# Altium footprint library Capacitors.PcbLib: 33 footprints (part 2 of 3)
Each footprint in its own frame and in the unit in brackets; x right, y up, seen from the top. Pads: shape width x height; smd on the part's side, far side on the other; paste and mask are expansions set on the pad; w line width, h text height; cw(c..) or ccw(c..) is an arc to the next point about the centre after c.
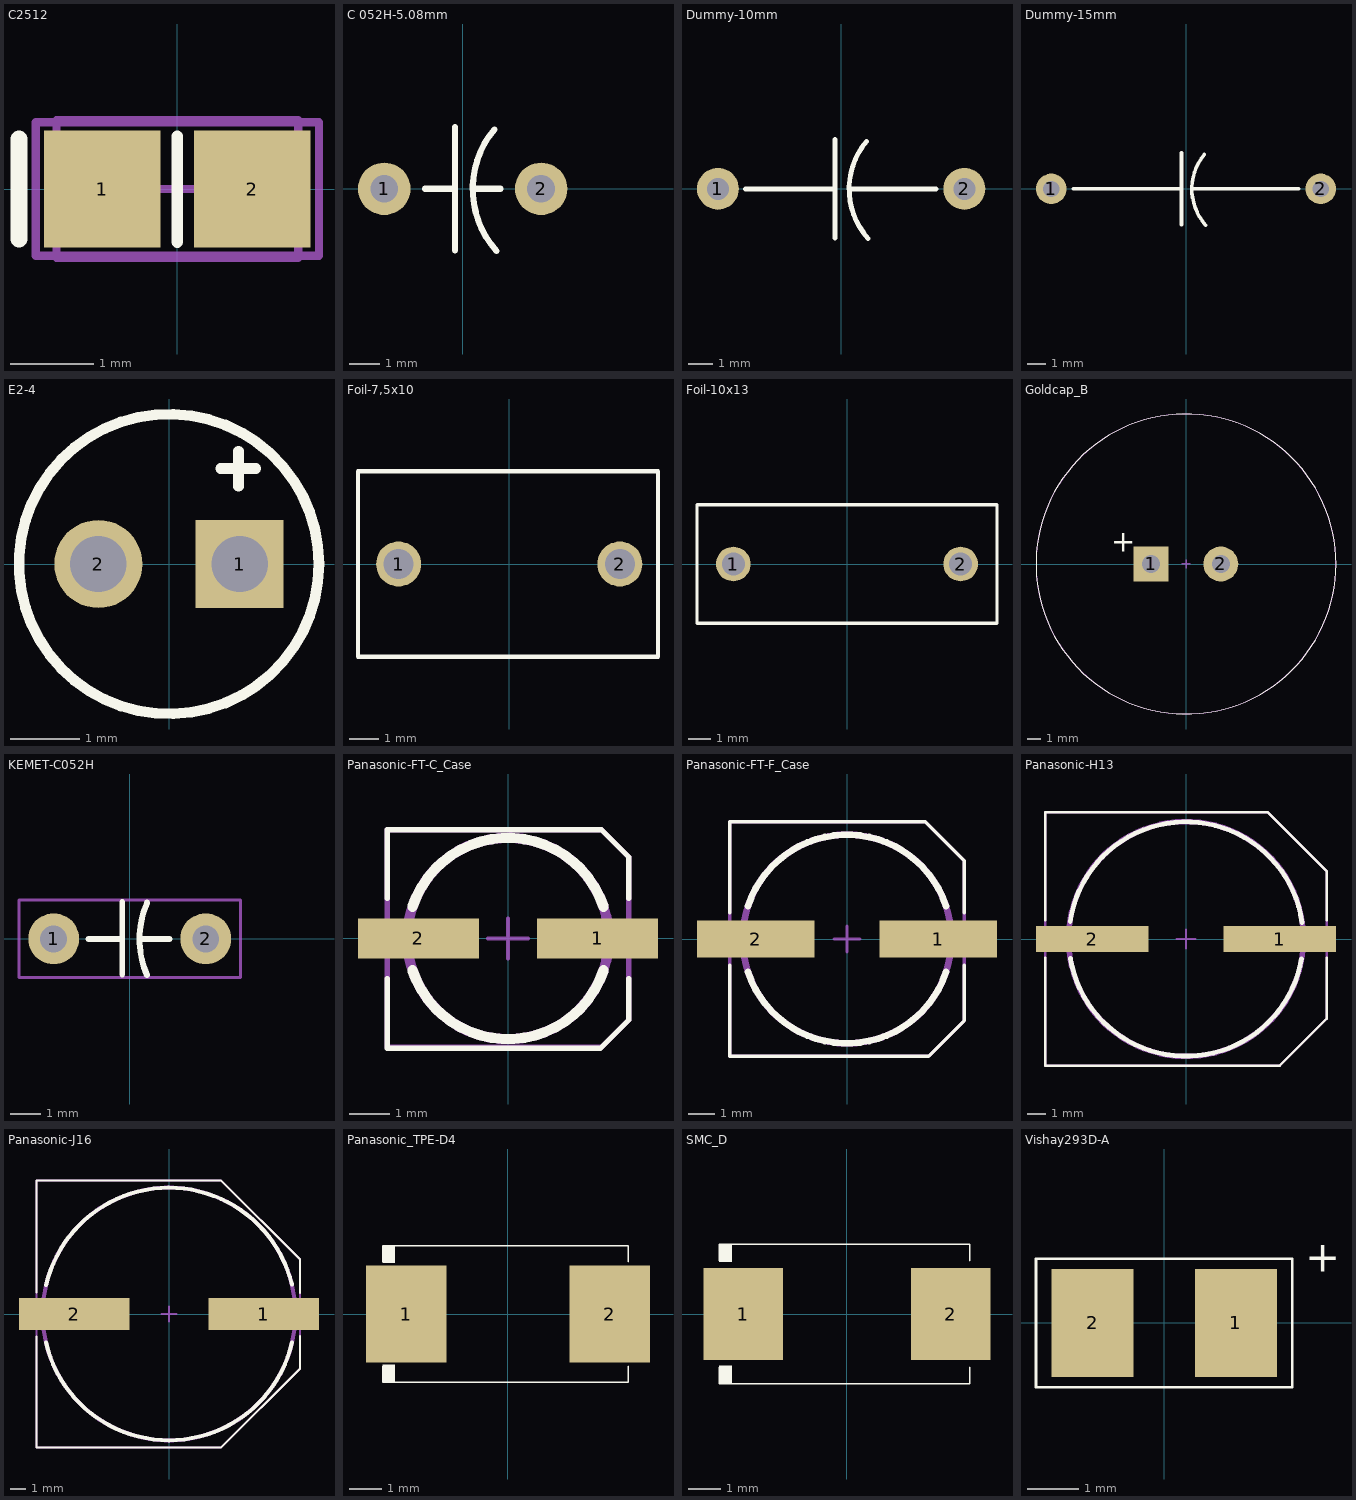
[diagram p1: the footprints below, top view; thin cyan lines are the x and y axes]

## C2512 [mm] "Chip Capacitor, Body 2.54x1.27mm, IPC High Density"
height 1.3
pads (2):
  rect 1.4x1.4 smd: 1(-0.9,0) 2(0.9,0)
Top Overlay:
  lines w0.14: 0,-0.635 0,0.635
  lines w0.2: -1.9,-0.6 -1.9,0.6
Mechanical 13:
  lines w0.1: -1.45,-0.825 1.45,-0.825 1.45,0.825 -1.45,0.825 -1.45,-0.825
Mechanical 15:
  lines w0.1: -0.5,0 0.5,0 ; 0,-0.5 0,0.5 ; -1.7,-0.8 1.7,-0.8 1.7,0.8 -1.7,0.8 -1.7,-0.8
3D body: height 1.3, standoff 0, extent -1.45,-0.825 1.45,0.825

## C 052H-5.08mm [mm] "Kemet, C052H series"
pads (2):
  round 1.7 hole 0.9: 1(-2.54,0) 2(2.54,0)
Top Overlay:
  lines w0.2: -1.225,0 -0.25,0 ; -0.25,-2 -0.25,2 ; 0.35,0 1.225,0 ; 1.026,1.922 ccw(c3.324,-0.006) 1.095,-2.014
3D body "C052.STEP": height 6.83, standoff -2, extent -2.8,-1.14 2.7,1.15

## Dummy-10mm [mm] "Dummy-10mm"
pads (2):
  round 1.7 hole 0.9: 1(-5,0) 2(5,0)
Top Overlay:
  lines w0.2: -3.875,0 -0.25,0 ; -0.25,-2 -0.25,2 ; 0.35,0 3.85,0 ; 1.026,1.922 ccw(c3.324,-0.006) 1.095,-2.014
3D body "C052H-10mm.step": height 7.83, standoff -1, extent -5.337,-1.165 5.35,1.125

## Dummy-15mm [mm] "Dummy-15mm"
pads (2):
  round 1.7 hole 0.9: 1(-7.5,0) 2(7.5,0)
Top Overlay:
  lines w0.2: -6.275,0 -0.25,0 ; -0.25,-2 -0.25,2 ; 0.35,0 6.275,0 ; 1.026,1.922 ccw(c3.324,-0.006) 1.095,-2.014
3D body: height 1.87, standoff 0.12, extent -2.387,-0.876 2.413,0.88

## E2-4 [mil] "E2-4"
pads (2):
  rect 50x50 hole 32: 1(40,0)
  round 50 hole 32: 2(-40,0)
Top Overlay:
  circle w6: c0,0 r85
  lines w6: 29.21,54.13 49.21,54.13 ; 39.37,43.98 39.37,63.98
Mechanical 16:
  lines w6: -60,0 -30,0 ; 25,0 60,0
3D body: height 291.34, standoff 15.75, extent -78.11,-78.58 78.75,78.59

## Foil-7,5x10 [mil] "Foil-7,5x10"
pads (2):
  round 60 hole 40: 1(-147.64,0) 2(147.64,0)
Top Overlay:
  lines w6: 197.83,-124.02 -201.77,-124.02 -201.77,124.02 198.5,124.02 198.5,-124.02
3D body "890324022017CS.stp": height 505.91, standoff -753.94, extent -198.81,-117.12 194.89,119.1

## Foil-10x13 [mil] "Foil-10x13"
pads (2):
  round 60 hole 40: 1(-196.85,0) 2(196.85,0)
Top Overlay:
  lines w6: -259.84,-102.36 -259.84,102.36 259.84,102.36 259.84,-102.36 -259.84,-102.36
3D body "890334023002CS.stp": height 427.17, standoff -753.94, extent -255.9,-99.4 255.91,97.45

## Goldcap_B [mm] "Capacitor, Body 21.5x9.5mm, IPC High Density"
height 9.5
pads (2):
  rect 2.5x2.5 hole 1.3: 1(-2.5,0)
  round 2.5 hole 1.3: 2(2.5,0)
Top Overlay:
  circle w0.05: c0,0 r10.757
  text "+" at -5.375,0.875 h1.52
Mechanical 1:
  circle w0.05: c0,0 r10.75
  lines w0.1: -0.3,0 0.3,0 ; 0,-0.3 0,0.3
3D body: height 8, standoff 0, extent -10.665,-10.729 10.75,10.729

## KEMET-C052H [mm] "KEMET, C052H/C062 Series, THT"
height 8
pads (2):
  round 1.7 hole 0.9: 1(-2.54,0) 2(2.54,0)
Top Overlay:
  lines w0.2: -1.375,0 -0.25,0 ; -0.25,-1.2 -0.25,1.225 ; 0.35,0 1.325,0 ; 0.576,-1.21 cw(c3.324,-0.006) 0.581,1.208
Mechanical 1:
  lines w0.1: -3.7,-1.3 -3.7,1.3 3.7,1.3 3.7,-1.3 -3.7,-1.3
3D body: height 8, standoff 1, extent -3.7,-1.325 3.7,1.3

## Panasonic-FT-C_Case [mm] "SMD electrolytic, Panasonic"
height 6
pads (2):
  rect 3x1 smd: 1(2.225,0) 2(-2.225,0)
Top Overlay:
  lines w0.127: -3,-1 -3,-2.725 2.3,-2.725 3,-2.025 3,-1 ; -3,1 -3,2.7 2.325,2.7 3,2.025 3,1
  lines w0.254: -2.372,-0.791 ccw(c0,0) 2.372,-0.791 ; -2.372,0.791 cw(c0,0) 2.372,0.791
Mechanical 1:
  circle w0.254: c0,0 r2.5
  lines w0.127: -3,-2.7 -3,2.7 2.325,2.7 3,2.025 3,-2.025 2.325,-2.7 -3,-2.7
Mechanical 15:
  circle w0.254: c0,0 r2.5
  lines w0.1: -0.5,0 0.5,0 ; 0,-0.5 0,0.5
  lines w0.127: -3,-2.7 -3,2.7 2.325,2.7 3,2.025 3,-2.025 2.325,-2.7 -3,-2.7
3D body: height 7, standoff 0, extent -2.496,-2.499 2.5,2.499
3D body: height 1, standoff 0, extent -3,-2.725 3,2.7

## Panasonic-FT-F_Case [mm] "SMD electrolytic, Panasonic"
height 10.2
pads (2):
  rect 4.5x1.4 smd: 1(3.5,0) 2(-3.5,0)
Top Overlay:
  lines w0.127: -4.5,-1 -4.5,-4.5 3.125,-4.5 4.5,-3.125 4.5,-1 ; -4.5,1 -4.5,4.5 3,4.5 4.5,3 4.5,1
  lines w0.254: -3.795,-1.265 ccw(c0,0) 3.795,-1.265 ; -3.795,1.265 cw(c0,0) 3.795,1.265
Mechanical 1:
  circle w0.254: c0,0 r4
  lines w0.127: -4.5,-4.5 3.125,-4.5 4.5,-3.125 4.5,3 3,4.5 -4.5,4.5 -4.5,-4.5
Mechanical 15:
  circle w0.254: c0,0 r4
  lines w0.1: -0.5,0 0.5,0 ; 0,-0.5 0,0.5
  lines w0.127: -4.5,-4.5 3.125,-4.5 4.5,-3.125 4.5,3 3,4.5 -4.5,4.5 -4.5,-4.5
3D body: height 10.4, standoff 0, extent -3.968,-3.865 4,4.119
3D body: height 1, standoff 0, extent -4.5,-4.5 4.5,4.5

## Panasonic-H13 [mm] "SMD electrolytic, Panasonic"
height 1.3
pads (2):
  rect 6x1.4 smd: 1(5,0) 2(-5,0)
Top Overlay:
  lines w0.127: -7.5,-1 -7.5,-6.75 5,-6.75 7.5,-4.25 7.5,-1 ; -7.5,1 -7.5,6.75 4.375,6.75 7.5,3.625 7.5,1
  lines w0.254: -6.179,0.94 cw(c0,0) 6.187,0.884 ; -6.165,-1.027 ccw(c0,0) 6.161,-1.049
Mechanical 1:
  circle w0.254: c0,0 r6.286
  lines w0.127: -7.5,1 -7.5,6.75 ; -7.5,6.75 4.375,6.75 7.5,3.625 7.5,-4.25 5,-6.75 -7.5,-6.75 -7.5,6.75
Mechanical 15:
  circle w0.254: c0,0 r6.25
  lines w0.1: -0.5,0 0.5,0 ; 0,-0.5 0,0.5
  lines w0.127: -7.5,-6.75 5,-6.75 7.5,-4.25 7.5,3.625 4.375,6.75 -7.5,6.75 -7.5,-6.75
3D body: height 13, standoff 0, extent -6.201,-6.111 6.25,6.365
3D body: height 1, standoff 0, extent -7.5,-6.75 7.5,6.75

## Panasonic-J16 [mm] "SMD electrolytic, Panasonic"
height 1.3
pads (2):
  rect 7x2 smd: 1(6,0) 2(-6,0)
Top Overlay:
  lines w0.127: -8.4,-1.425 -8.4,-8.45 3.3,-8.45 8.3,-3.45 8.3,-1.4 ; -8.4,1.375 -8.4,8.45 3.3,8.45 8.3,3.45 8.3,1.325
  lines w0.254: -7.796,-1.797 ccw(c0,0) 7.796,-1.797 ; -7.789,1.827 cw(c0,0) 7.778,1.872
Mechanical 1:
  circle w0.254: c0,0 r8
  lines w0.127: -8.4,1 -8.4,8.45 3.3,8.45 8.3,3.45 8.3,-3.45 3.3,-8.45 -8.4,-8.45 -8.4,6.75
Mechanical 15:
  circle w0.254: c0,0 r8
  lines w0.1: -0.5,0 0.5,0 ; 0,-0.5 0,0.5
  lines w0.127: -8.4,-8.45 -8.4,8.45 3.3,8.45 8.3,3.45 8.3,-3.45 3.3,-8.45 -8.4,-8.45
3D body: height 13, standoff 0, extent -6.25,-6.121 6.25,6.375
3D body: height 1, standoff 0, extent -8.425,-8.45 8.3,8.475

## Panasonic_TPE-D4 [mm] "Panasonic, TPE-D4"
pads (2):
  rect 2.5x3 smd: 1(-3.162,0) 2(3.163,0)
Top Overlay:
  region: -3.888,-2.112 -3.512,-2.112 -3.512,-1.575 -3.888,-1.575
  region: -3.888,1.6 -3.512,1.6 -3.512,2.125 -3.888,2.125
  lines w0.05: -3.888,-1.625 -3.888,-2.125 3.738,-2.125 3.738,-1.625 ; -3.888,1.625 -3.888,2.125 3.738,2.125 3.738,1.625
Mechanical 16:
  region: 3.645,1.219 3.442,1.219 3.442,-1.2 3.645,-1.2
  rectangle: -3.662,-1.2 -3.463,1.219
3D body: height 3.9, standoff 0.1, extent -3.912,-2.15 -3.437,2.125
3D body: height 3.9, standoff 0.1, extent -3.437,-2.15 3.738,2.125

## SMC_D [mil] "SMC_D"
pads (2):
  rect 95x111 smd: 1(-124.51,0) 2(124.51,0)
Top Overlay:
  region: -153.05,-83.17 -138.29,-83.17 -138.29,-62.01 -153.05,-62.01
  region: -153.05,62.99 -138.29,62.99 -138.29,83.66 -153.05,83.66
  lines w1.97: -153.05,-63.98 -153.05,-83.66 147.15,-83.66 147.15,-63.98 ; -153.05,63.98 -153.05,83.66 147.15,83.66 147.15,63.98
Mechanical 16:
  region: 143.51,48 135.51,48 135.51,-47.24 143.51,-47.24
  rectangle: -144.19,-47.24 -136.32,48
3D body: height 118.11, standoff 3.94, extent -154.04,-84.65 -135.33,83.66
3D body: height 118.11, standoff 3.94, extent -135.33,-84.65 147.15,83.66

## Vishay293D-A [mm]
height 1.6
pads (2):
  rect 1.6x2.1 smd: 1(1.397,0) 2(-1.397,0)
Top Overlay:
  lines w0.05: -2.5,-1.25 -2.5,1.25 2.5,1.25 2.5,-1.25 -2.5,-1.25
  text "+" at 2.75,1 h0.6
3D body: height 1.6, standoff 0, extent 1.25,-1 1.75,1
3D body: height 1.6, standoff 0, extent -1.75,-1 1.25,1